# Altium integrated library TC2050-IDC-NL.IntLib: 1 symbol
Pins are listed as number, name and electrical type; pins without a type are passive.

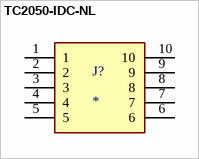
[diagram p0: symbol TC2050-IDC-NL]

## TC2050-IDC-NL
designator J?
MSP-FET430 Flash Emulation Tool Plug-Of-Nailsâ„¢ Adapter Cable; MP: TC2050-IDC-NL; MF: Tag-Connect LLC; Price: None; Availability: In Stock; Package: None; SnapEDA_Link: https://www.snapeda.com/parts/TC2050-IDC-NL/Tag-Connect+LLC/view-part/?ref=snap; Check_prices: https://www.snapeda.com/parts/TC2050-IDC-NL/Tag-Connect+LLC/view-part/?ref=eda; Value: *; Purchase-URL: https://pricing.snapeda.com/search/part/TC2050-IDC-NL/?ref=eda
footprint TAG-CONNECT_TC2050-IDC-NL
pins: 1, 2, 3, 4, 5, 6, 7, 8, 9, 10